# Altium footprint library Tese_FootprintLib.PcbLib: 41 footprints (part 1 of 3)
Each footprint in its own frame and in the unit in brackets; x right, y up, seen from the top. Pads: shape width x height; smd on the part's side, far side on the other; paste and mask are expansions set on the pad; w line width, h text height; cw(c..) or ccw(c..) is an arc to the next point about the centre after c.
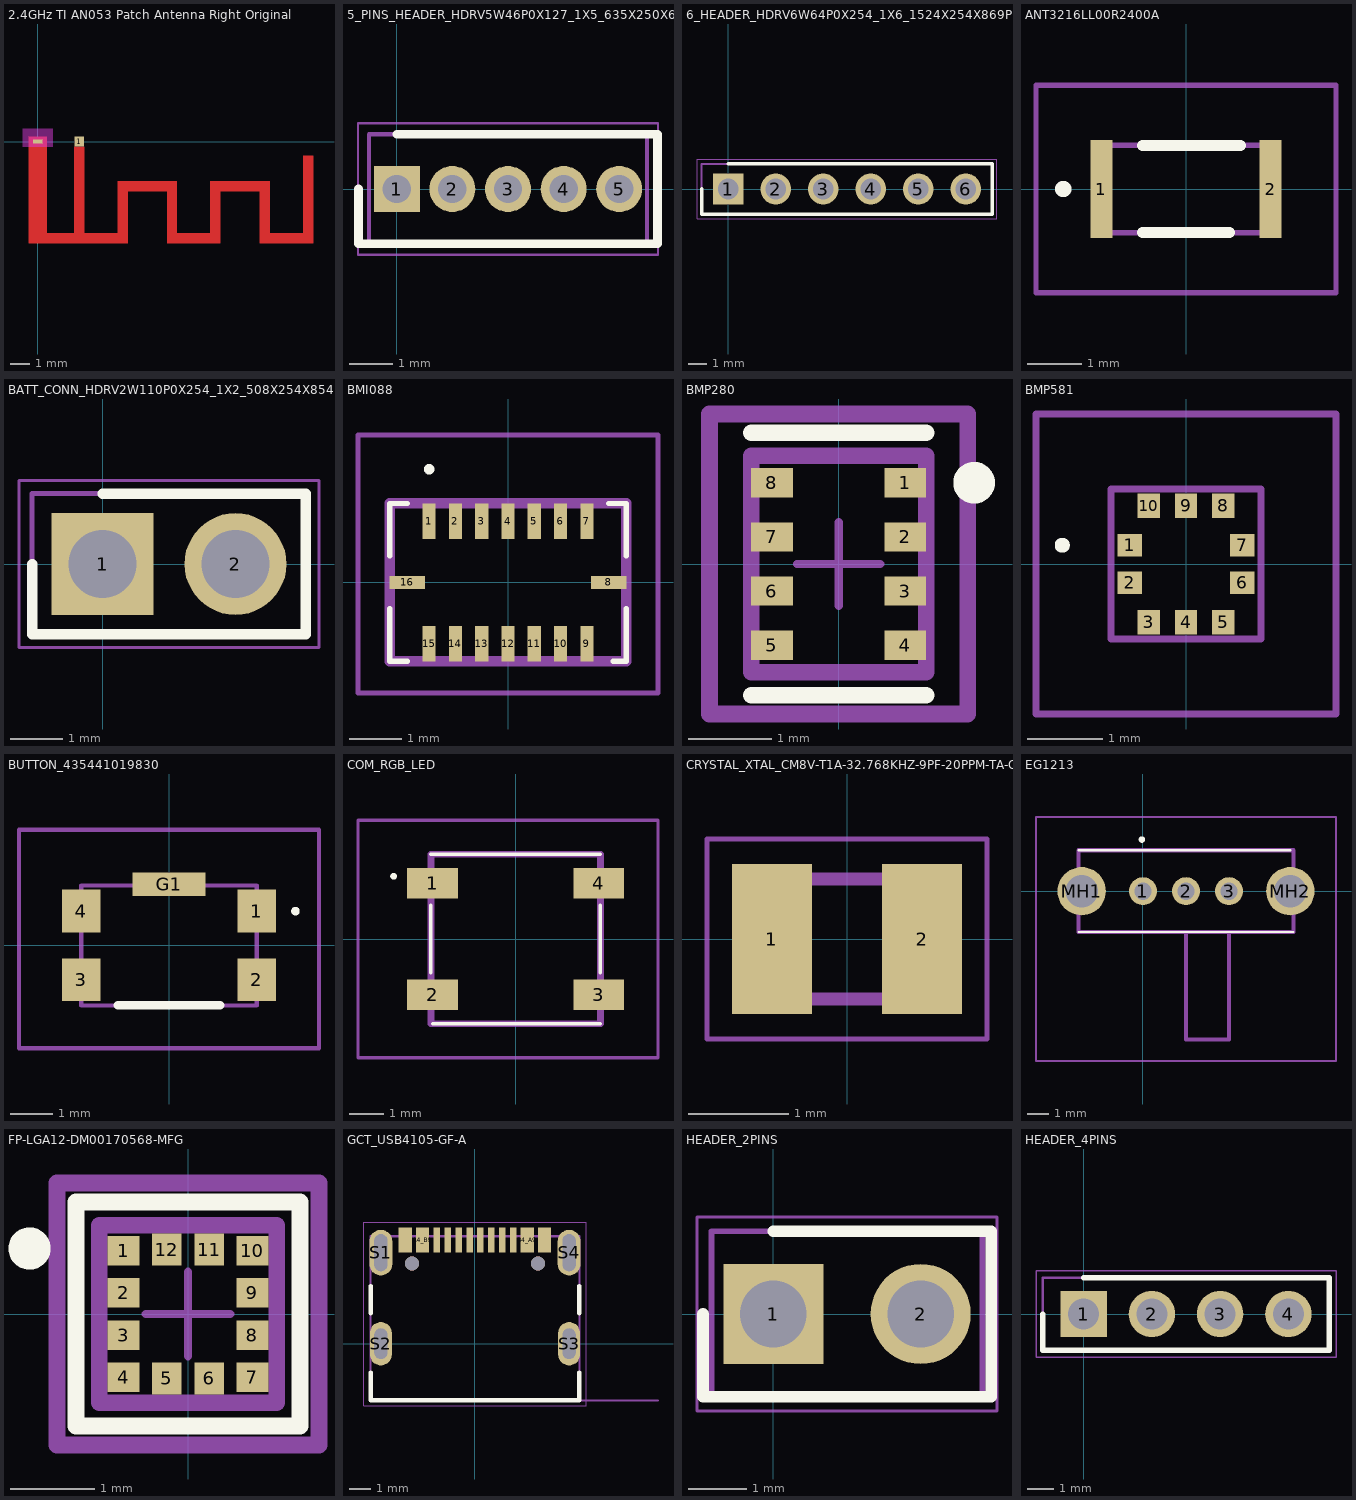
[diagram p0: the footprints below, top view; thin cyan lines are the x and y axes]

## 2.4GHz TI AN053 Patch Antenna Right Original [mm]
height 4
pads (2):
  rect 0.5x0.5 smd paste+0 mask+0: 1(2.1,0)
  rect 0.5x0.2 smd: 2(0,0)
Top Layer:
  region: 1.85,-0.25 1.85,-4.65 2.35,-4.65 2.35,-0.25
  region: -0.45,0.25 -0.45,-4.65 0.45,-4.65 0.45,0.25
  region: -0.45,-4.65 -0.45,-5.15 4.55,-5.15 4.55,-4.65
  region: 4.05,-2.01 4.05,-4.65 4.55,-4.65 4.55,-2.01
  region: 4.55,-2.01 4.55,-2.51 6.55,-2.51 6.55,-2.01
  region: 6.55,-2.01 6.55,-4.65 7.05,-4.65 7.05,-2.01
  region: 6.55,-4.65 6.55,-5.15 9.25,-5.15 9.25,-4.65
  region: 8.75,-2.01 8.75,-4.65 9.25,-4.65 9.25,-2.01
  region: 9.25,-2.01 9.25,-2.51 11.25,-2.51 11.25,-2.01
  region: 11.25,-4.65 11.25,-5.15 13.95,-5.15 13.95,-4.65
  region: 13.45,-0.71 13.45,-4.65 13.95,-4.65 13.95,-0.71
  region: 11.25,-2.01 11.25,-4.65 11.75,-4.65 11.75,-2.01
Top Layer keep-out:
  region: 0.763,-0.246 0.763,0.655 -0.757,0.655 -0.757,-0.246
Multi-Layer:
  pour cut-out: -0.95,-0.25 -0.95,-5.45 14.25,-5.45 14.25,-0.25

## 5_PINS_HEADER_HDRV5W46P0X127_1X5_635X250X650P [mm]
pads (5):
  rect 1.05x1.05 / inner round 1.05 / far side rect 1.05x1.05 hole 0.65: 1(0,0)
  round 1.05 hole 0.65: 2(1.27,0) 3(2.54,0) 4(3.81,0) 5(5.08,0)
Top Overlay:
  lines w0.2: -0.875,0 -0.875,-1.25 5.955,-1.25 5.955,1.25 0,1.25
Mechanical 15:
  lines w0.1: -0.635,-1.25 5.715,-1.25 5.715,1.25 -0.635,1.25 -0.635,-1.25
Mechanical 20:
  lines w0.05: -0.885,-1.5 5.965,-1.5 5.965,1.5 -0.885,1.5 -0.885,-1.5
3D body "M52-040023V0545.stp": height 6.5, standoff -2.3, extent -0.635,-1.25 5.715,1.25

## 6_HEADER_HDRV6W64P0X254_1X6_1524X254X869P [mm]
pads (6):
  rect 1.65x1.65 / inner round 1.65 / far side rect 1.65x1.65 hole 1.1: 1(0,0)
  round 1.65 hole 1.1: 2(2.54,0) 3(5.08,0) 4(7.62,0) 5(10.16,0) 6(12.7,0)
Top Overlay:
  lines w0.2: -1.42,0 -1.42,-1.345 14.12,-1.345 14.12,1.345 0,1.345
Mechanical 15:
  lines w0.1: -1.42,-1.345 -1.42,1.345 14.12,1.345 14.12,-1.345 -1.42,-1.345
Mechanical 20:
  lines w0.05: -1.67,-1.595 -1.67,1.595 14.37,1.595 14.37,-1.595 -1.67,-1.595
3D body "61300611121.stp": height 8.69, standoff -3.2, extent -1.27,-1.27 13.97,1.27

## ANT3216LL00R2400A [mm] "ANTENNA"
pads (2):
  rect 0.4x1.8 smd: 1(-1.55,0) 2(1.55,0)
Top Overlay:
  lines w0.2: -2.3,0 ccw(c-2.25,0) -2.2,0 ; -2.3,0 cw(c-2.25,0) -2.2,0 ; -2.3,0 ccw(c-2.25,0) -2.2,0 ; -0.8,-0.8 0.8,-0.8 -0.8,-0.8 ; -0.8,0.8 1,0.8 -0.8,0.8
Mechanical 15:
  lines w0.1: -1.6,-0.8 -1.6,0.8 1.6,0.8 1.6,-0.8 -1.6,-0.8
Mechanical 20:
  lines w0.1: -2.75,-1.9 -2.75,1.9 2.75,1.9 2.75,-1.9 -2.75,-1.9
3D body "ANT3216LL00R2400A.stp": height 1.21, standoff 0, extent -1.6,-0.801 1.6,0.801

## BATT_CONN_HDRV2W110P0X254_1X2_508X254X854P [mm]
pads (2):
  rect 1.95x1.95 / inner round 1.95 / far side rect 1.95x1.95 hole 1.3: 1(0,0)
  round 1.95 hole 1.3: 2(2.54,0)
Top Overlay:
  lines w0.2: -1.345,0 -1.345,-1.345 3.885,-1.345 3.885,1.345 0,1.345
Mechanical 15:
  lines w0.1: -1.345,-1.345 -1.345,1.345 3.885,1.345 3.885,-1.345 -1.345,-1.345
Mechanical 20:
  lines w0.05: -1.595,-1.595 -1.595,1.595 4.135,1.595 4.135,-1.595 -1.595,-1.595
3D body "61300211121.stp": height 8.54, standoff -3.15, extent -1.27,-1.27 3.81,1.27

## BMI088 [mm] "IMU"
pads (16):
  rect 0.25x0.675 smd: 1(-1.5,1.165) 2(-1,1.165) 3(-0.5,1.165) 4(0,1.165) 5(0.5,1.165) 6(1,1.165) 7(1.5,1.165) 9(1.5,-1.165) 10(1,-1.165) 11(0.5,-1.165) 12(0,-1.165) 13(-0.5,-1.165) 14(-1,-1.165) 15(-1.5,-1.165)
  rect 0.675x0.25 smd: 8(1.915,0) 16(-1.915,0)
Top Overlay:
  lines w0.1: -2.25,-0.5 -2.25,-1.5 -1.915,-1.5 ; -2.25,0.5 -2.25,1.5 -1.915,1.5 ; 1.915,1.5 2.25,1.5 2.25,0.5 ; 2,-1.5 2.25,-1.5 2.25,-0.5 ; -1.5,2.1 cw(c-1.5,2.15) -1.5,2.2 cw(c-1.5,2.15) -1.5,2.1
Mechanical 15:
  lines w0.2: -2.25,-1.5 2.25,-1.5 2.25,1.5 -2.25,1.5 -2.25,-1.5
Mechanical 20:
  lines w0.1: -2.852,-2.103 2.852,-2.103 2.852,2.8 -2.852,2.8 -2.852,-2.103
3D body "BMI088.stp": height 1.55, standoff 0, extent -2.25,-1.5 2.25,1.5

## BMP280 [mm] "PRESSURE SENSOR"
pads (8):
  rect 0.5x0.35 smd paste+0 mask+0: 1(0.8,0.975) 2(0.8,0.325) 3(0.8,-0.325) 4(0.8,-0.975) 5(-0.8,-0.975) 6(-0.8,-0.325) 7(-0.8,0.325) 8(-0.8,0.975)
Top Overlay:
  circle w0.25: c1.625,0.975 r0.125
  lines w0.2: -1.05,-1.575 1.05,-1.575 ; -1.05,1.575 1.05,1.575
Mechanical 10:
  lines w0.2: -1.55,-1.8 1.55,-1.8 1.55,1.8 -1.55,1.8 -1.55,-1.8
Mechanical 12:
  lines w0.2: -1.05,-1.3 1.05,-1.3 1.05,1.3 -1.05,1.3 -1.05,-1.3
Mechanical 15:
  lines w0.1: -0.5,0 0.5,0 ; 0,-0.5 0,0.5
  lines w0.2: -1.55,-1.8 1.55,-1.8 1.55,1.8 -1.55,1.8 -1.55,-1.8
3D body "IC_Bosch_Sensortec_BMP280_eec.STEP": height 0.25, standoff 0, extent -1.55,-1.8 1.55,1.8
3D body "IC_Bosch_Sensortec_BMP280_eec.STEP": height 1, standoff 0, extent -1,-1.25 1,1.25

## BMP581 [mm]
pads (10):
  rect 0.325x0.3 smd mask+0.07: 1(-0.75,0.25) 2(-0.75,-0.25) 6(0.75,-0.25) 7(0.75,0.25)
  rect 0.3x0.325 smd mask+0.07: 3(-0.5,-0.775) 4(0,-0.775) 5(0.5,-0.775) 8(0.5,0.775) 9(0,0.775) 10(-0.5,0.775)
Top Overlay:
  lines w0.1: -1.7,0.25 cw(c-1.65,0.25) -1.6,0.25 cw(c-1.65,0.25) -1.7,0.25
Mechanical 15:
  lines w0.1: -1,-1 1,-1 1,1 -1,1 -1,-1
Mechanical 20:
  lines w0.1: -2,-2 2,-2 2,2 -2,2 -2,-2
3D body "BMP581.stp": height 0.8, standoff 0, extent -1,-1 1,1

## BUTTON_435441019830 [mm]
pads (5):
  rect 0.9x1 smd: 1(2.05,0.8) 2(2.05,-0.8) 3(-2.05,-0.8) 4(-2.05,0.8)
  rect 1.7x0.55 smd: G1(0,1.425)
Top Overlay:
  lines w0.1: 2.9,0.8 ccw(c2.95,0.8) 3,0.8 ccw(c2.95,0.8) 2.9,0.8
  lines w0.2: -1.2,-1.4 1.2,-1.4
Mechanical 15:
  lines w0.1: -2.05,-1.4 -2.05,1.4 2.05,1.4 2.05,-1.4 -2.05,-1.4
Mechanical 20:
  lines w0.1: -3.5,-2.4 -3.5,2.7 3.5,2.7 3.5,-2.4 -3.5,-2.4
3D body "435441019830.stp": height 2, standoff 0, extent -2.41,-1.4 2.41,1.645

## COM_RGB_LED [mm]
pads (4):
  rect 1.5x0.9 smd: 1(-2.45,1.65) 2(-2.45,-1.65) 3(2.45,-1.65) 4(2.45,1.65)
Top Overlay:
  lines w0.1: -2.5,-1 -2.5,1 ; -2.5,2.5 2.5,2.5 ; -2.45,-2.5 2.5,-2.5 ; 2.5,-1 2.5,1 ; -3.6,1.8 ccw(c-3.6,1.85) -3.6,1.9 ccw(c-3.6,1.85) -3.6,1.8
Mechanical 15:
  lines w0.2: -2.5,-2.5 2.5,-2.5 2.5,2.5 -2.5,2.5 -2.5,-2.5
Mechanical 20:
  lines w0.1: -4.65,-3.5 4.2,-3.5 4.2,3.5 -4.65,3.5 -4.65,-3.5

## CRYSTAL_XTAL_CM8V-T1A-32.768KHZ-9PF-20PPM-TA-QC [mm]
height 0.6
pads (2):
  rect 0.8x1.5 smd: 1(-0.75,0) 2(0.75,0)
Mechanical 13:
  lines w0.127: -1,-0.6 1,-0.6 1,0.6 -1,0.6 -1,-0.6
Mechanical 15:
  lines w0.05: -1.4,-1 1.4,-1 1.4,1 -1.4,1 -1.4,-1
3D body "step_temp.STEP": height 0.6, standoff 0, extent -1,-0.6 1,0.6

## EG1213 [mm] "SWITCH BUTTON"
pads (5):
  round 1.3 hole 0.8: 1(0,0) 2(2,0) 3(4,0)
  round 2.25 hole 1.5: MH1(-2.85,0) MH2(6.85,0)
Top Overlay:
  lines w0.1: -3,-1.9 7,-1.9 -3,-1.9 ; -3,1.9 6.85,1.9 -3,1.9
  lines w0.2: -0.1,2.4 ccw(c-0.05,2.4) 0,2.4 ; -0.1,2.4 cw(c-0.05,2.4) 0,2.4 ; -0.1,2.4 ccw(c-0.05,2.4) 0,2.4
Mechanical 15:
  lines w0.2: -3,-1.9 -3,1.9 7,1.9 7,-1.9 -3,-1.9 ; 2,-6.9 2,-1.9 4,-1.9 4,-6.9 2,-6.9
Mechanical 20:
  lines w0.1: -4.975,-7.9 -4.975,3.45 8.975,3.45 8.975,-7.9 -4.975,-7.9
3D body "EG1213.stp": height 5.1, standoff -5, extent -3.5,-6.9 7.5,1.9

## FP-LGA12-DM00170568-MFG [mm] "IMU LIS2DW12TR"
pads (12):
  rect 0.375x0.35 smd paste+0 mask+0: 1(-0.763,0.75) 2(-0.763,0.25) 3(-0.763,-0.25) 4(-0.763,-0.75) 7(0.763,-0.75) 8(0.763,-0.25) 9(0.763,0.25) 10(0.763,0.75)
  rect 0.35x0.375 smd paste+0 mask+0: 5(-0.25,-0.763) 6(0.25,-0.763) 11(0.25,0.763) 12(-0.25,0.763)
Top Overlay:
  circle w0.25: c-1.875,0.775 r0.125
  lines w0.2: -1.325,-1.325 -1.325,1.325 1.325,1.325 1.325,-1.325 -1.325,-1.325
Top Assembly:
  lines w0.2: -1.55,-1.55 -1.55,1.55 1.55,1.55 1.55,-1.55 -1.55,-1.55
  text ".Designator" at 0,0.188 h1
Top 3D Body:
  lines w0.2: -1.05,-1.05 -1.05,1.05 1.05,1.05 1.05,-1.05 -1.05,-1.05
Top Courtyard:
  lines w0.2: -1.55,-1.55 -1.55,1.55 1.55,1.55 1.55,-1.55 -1.55,-1.55
Top Component Center:
  lines w0.1: -0.5,0 0.5,0 ; 0,-0.5 0,0.5
3D body "IC_STMicroelectronics_LIS2DW12TR_eec.STEP": height 0.25, standoff 0, extent -1.55,-1.55 1.55,1.55

## GCT_USB4105-GF-A [mm] "USB_C"
height 3.31
pads (18):
  rect 0.6x1.15 smd mask+0.05: A1_B12(-3.2,4.755) A4_B9(-2.4,4.755) B1_A12(3.2,4.755) B4_A9(2.4,4.755)
  rect 0.3x1.15 smd mask+0.05: A5(-1.25,4.755) A6(-0.25,4.755) A7(0.25,4.755) A8(1.25,4.755) B5(1.75,4.755) B6(0.75,4.755) B7(-0.75,4.755) B8(-1.75,4.755)
  oval 1.05x2.1 hole 0.6 slot 1.7 at 90 deg: S1(-4.32,4.18) S4(4.32,4.18)
  oval 1x2 hole 0.6 slot 1.4 at 90 deg: S2(-4.32,0) S3(4.32,0)
  round 0.65 hole 0.65 unplated: ""(-2.89,3.68) ""(2.89,3.68)
Top Overlay:
  lines w0.2: -4.79,-1.32 -4.79,-2.6 4.79,-2.6 4.79,-1.32 ; -4.79,1.4 -4.79,2.65 ; 4.79,1.4 4.79,2.65
Mechanical 13:
  lines w0.1: 4.8,-2.6 8.4,-2.6 ; -4.79,-2.6 -4.79,4.93 4.79,4.93 4.79,-2.6 -4.79,-2.6
  text "PCB EDGE" at 5.4,-2.5 h0.41
Mechanical 15:
  lines w0.05: -5.1,-2.85 5.1,-2.85 5.1,5.58 -5.1,5.58 -5.1,-2.85
3D body "step_temp.STEP": height 3.31, standoff -0.85, extent -4.79,-2.6 4.79,5.11

## HEADER_2PINS [mm]
pads (2):
  rect 1.725x1.725 / inner round 1.725 / far side rect 1.725x1.725 hole 1.15: 1(0,0)
  round 1.725 hole 1.15: 2(2.54,0)
Top Overlay:
  lines w0.2: -1.212,0 -1.212,-1.425 3.753,-1.425 3.753,1.425 0,1.425
Mechanical 15:
  lines w0.1: -1.065,-1.425 -1.065,1.425 3.605,1.425 3.605,-1.425 -1.065,-1.425
Mechanical 20:
  lines w0.05: -1.315,-1.675 -1.315,1.675 3.855,1.675 3.855,-1.675 -1.315,-1.675
3D body "5-146277-2.stp": height 5.84, standoff -5.33, extent -1.067,-1.168 3.607,1.168

## HEADER_4PINS [mm]
pads (4):
  rect 1.725x1.725 / inner round 1.725 / far side rect 1.725x1.725 hole 1.15: 1(0,0)
  round 1.725 hole 1.15: 2(2.54,0) 3(5.08,0) 4(7.62,0)
Top Overlay:
  lines w0.2: -1.52,0 -1.52,-1.35 9.14,-1.35 9.14,1.35 0,1.35
Mechanical 15:
  lines w0.1: -1.52,-1.35 9.14,-1.35 9.14,1.35 -1.52,1.35 -1.52,-1.35
Mechanical 20:
  lines w0.05: -1.77,-1.6 9.39,-1.6 9.39,1.6 -1.77,1.6 -1.77,-1.6
3D body "826936-4.stp": height 5.8, standoff -6, extent -1.27,-1.25 8.89,1.25